# EAGLE library part ZAD2020 (library Module)
ZAD2020 30Wx2 Audio Amplifier Created by: Wai Weng
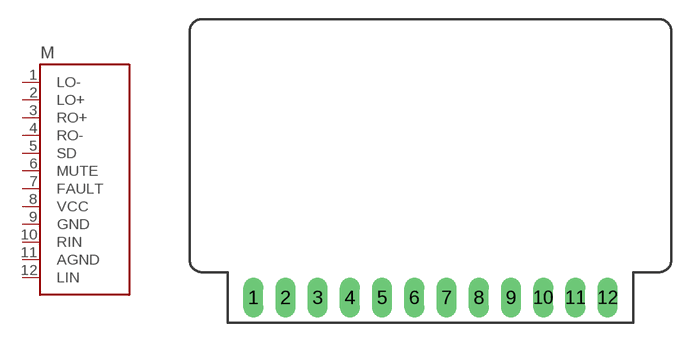
[diagram p13: symbol with the pads of ZAD2020; footprint ZAD2020]

Designator prefix M

## ZAD2020  [ZAD2020]
1  LO-
2  LO+
3  RO+
4  RO-
5  SD
6  MUTE
7  FAULT
8  VCC
9  GND
10  RIN
11  AGND
12  LIN

## Footprint ZAD2020 (pad centres in mm)
ZAD2020 30Wx2 Audio Amplifier Created by: Wai Weng
drill 1.05 long: 1 -13.97,0; 2 -11.43,0; 3 -8.89,0; 4 -6.35,0; 5 -3.81,0; 6 -1.27,0; 7 1.27,0; 8 3.81,0; 9 6.35,0; 10 8.89,0; 11 11.43,0; 12 13.97,0